# Altium schematic symbol library MAAL-011111.SchLib: 1 symbol
Pins are listed as number, name and electrical type; pins without a type are passive.

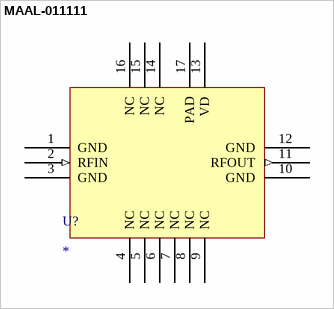
[diagram p0: symbol MAAL-011111]

## MAAL-011111
designator U?
pins: 1 GND (power), 2 RFIN (in), 3 GND (power), 4 NC, 5 NC, 6 NC, 7 NC, 8 NC, 9 NC, 10 GND (power), 11 RFOUT (out), 12 GND (power), 13 VD (power), 14 NC, 15 NC, 16 NC, 17 PAD (power)